# Altium schematic symbol library Schlib1.SchLib: 5 symbols
Pins are listed as number, name and electrical type; pins without a type are passive.

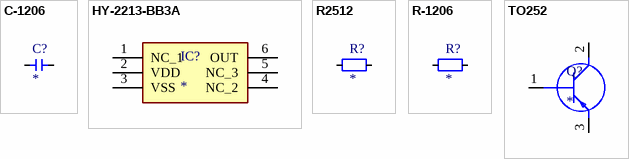
[diagram p0: symbols C-1206 to TO252]

## C-1206
designator C?
footprint C1206
pins: 1, 2

## HY-2213-BB3A
designator IC?
footprint HY223
pins: 1 NC_1, 2 VDD, 3 VSS, 4 NC_2, 5 NC_3, 6 OUT

## R2512
designator R?
footprint R2512
pins: 1, 2

## R-1206
designator R?
footprint R1206
pins: 1, 2

## TO252
designator Q?
footprint TO252
pins: 1 B, 2 C, 3 E